# Altium schematic symbol library FSSD06BQX.SchLib: 1 symbol
Pins are listed as number, name and electrical type; pins without a type are passive.

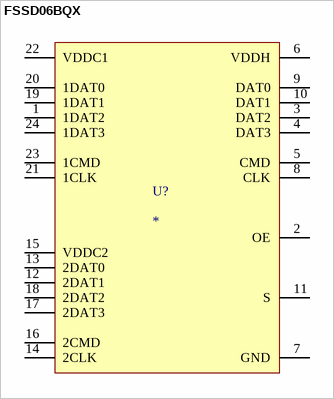
[diagram p0: symbol FSSD06BQX]

## FSSD06BQX
designator U?
pins: 1 1DAT2, 2 OE, 3 DAT2, 4 DAT3, 5 CMD, 6 VDDH, 7 GND, 8 CLK, 9 DAT0, 10 DAT1, 11 S, 12 2DAT1, 13 2DAT0, 14 2CLK, 15 VDDC2, 16 2CMD, 17 2DAT3, 18 2DAT2, 19 1DAT1, 20 1DAT0, 21 1CLK, 22 VDDC1, 23 1CMD, 24 1DAT3